# EAGLE library part CONN_PINHEADER-2X8 (library psas)
Generic 2x8 pinheader Various pitches possible
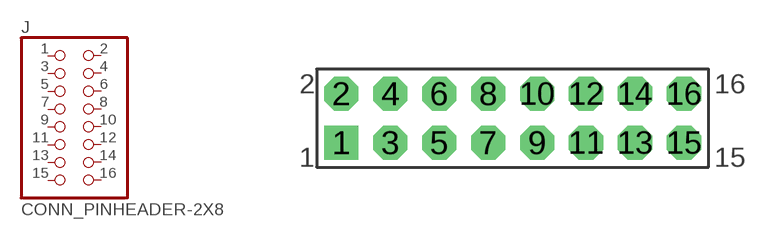
[diagram p37: symbol with the pads of 2MM-2X8-HEADER; footprint 2MM-2X8-HEADER]

Designator prefix J

## CONN_PINHEADER-2X8-2MM  [2MM-2X8-HEADER]
1  1  pas
2  2  pas
3  3  pas
4  4  pas
5  5  pas
6  6  pas
7  7  pas
8  8  pas
9  9  pas
10  10  pas
11  11  pas
12  12  pas
13  13  pas
14  14  pas
15  15  pas
16  16  pas

## Footprint 2MM-2X8-HEADER (pad centres in mm)
2mm -- 2 x 8 Pin Header 0.035" drill
drill 0.889 pad 1.372 square: 1 -7,-1
drill 0.889 pad 1.372 octagon: 2 -7,1; 3 -5,-1; 4 -5,1; 5 -3,-1; 6 -3,1; 7 -1,-1; 8 -1,1; 9 1,-1; 10 1,1; 11 3,-1; 12 3,1; 13 5,-1; 14 5,1; 15 7,-1; 16 7,1